# Altium footprint library Atmega128.PcbLib: 3 footprints
Each footprint in its own frame and in the unit in brackets; x right, y up, seen from the top. Pads: shape width x height; smd on the part's side, far side on the other; paste and mask are expansions set on the pad; w line width, h text height; cw(c..) or ccw(c..) is an arc to the next point about the centre after c.
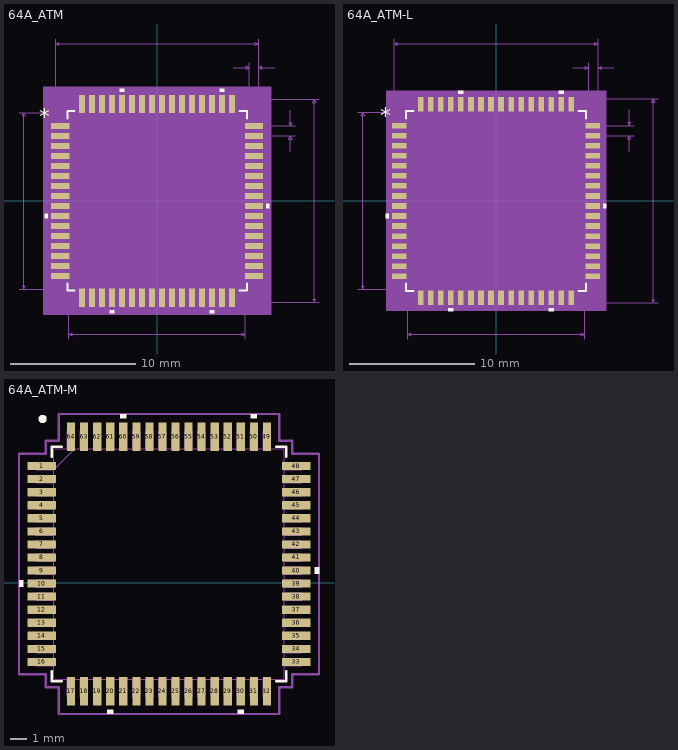
[diagram p0: the footprints below, top view; thin cyan lines are the x and y axes]

## 64A_ATM [mm]
pads (64):
  rect 1.461x0.501 smd paste+0 mask+0: 1(-7.75,6) 2(-7.75,5.2) 3(-7.75,4.4) 4(-7.75,3.6) 5(-7.75,2.8) 6(-7.75,2) 7(-7.75,1.2) 8(-7.75,0.4) 9(-7.75,-0.4) 10(-7.75,-1.2) 11(-7.75,-2) 12(-7.75,-2.8) 13(-7.75,-3.6) 14(-7.75,-4.4) 15(-7.75,-5.2) 16(-7.75,-6) 33(7.75,-6) 34(7.75,-5.2) 35(7.75,-4.4) 36(7.75,-3.6) 37(7.75,-2.8) 38(7.75,-2) 39(7.75,-1.2) 40(7.75,-0.4) 41(7.75,0.4) 42(7.75,1.2) 43(7.75,2) 44(7.75,2.8) 45(7.75,3.6) 46(7.75,4.4) 47(7.75,5.2) 48(7.75,6)
  rect 0.501x1.461 smd paste+0 mask+0: 17(-6,-7.75) 18(-5.2,-7.75) 19(-4.4,-7.75) 20(-3.6,-7.75) 21(-2.8,-7.75) 22(-2,-7.75) 23(-1.2,-7.75) 24(-0.4,-7.75) 25(0.4,-7.75) 26(1.2,-7.75) 27(2,-7.75) 28(2.8,-7.75) 29(3.6,-7.75) 30(4.4,-7.75) 31(5.2,-7.75) 32(6,-7.75) 49(6,7.75) 50(5.2,7.75) 51(4.4,7.75) 52(3.6,7.75) 53(2.8,7.75) 54(2,7.75) 55(1.2,7.75) 56(0.4,7.75) 57(-0.4,7.75) 58(-1.2,7.75) 59(-2,7.75) 60(-2.8,7.75) 61(-3.6,7.75) 62(-4.4,7.75) 63(-5.2,7.75) 64(-6,7.75)
Top Overlay:
  region: -2.609,8.735 -2.99,8.735 -2.99,8.989 -2.609,8.989
  region: 5.39,8.735 5.009,8.735 5.009,8.989 5.39,8.989
  region: 8.735,-0.209 8.989,-0.209 8.989,-0.59 8.735,-0.59
  region: 4.59,-8.735 4.209,-8.735 4.209,-8.989 4.59,-8.989
  region: -3.41,-8.735 -3.791,-8.735 -3.791,-8.989 -3.41,-8.989
  region: -8.735,-1.01 -8.989,-1.01 -8.989,-1.391 -8.735,-1.391
  lines w0.152: -7.177,-6.583 -7.177,-7.177 -6.583,-7.177 ; -7.177,6.583 -7.177,7.177 -6.583,7.177 ; 6.583,-7.177 7.177,-7.177 7.177,-6.583 ; 6.583,7.177 7.177,7.177 7.177,6.583
  text "*" at -9.433,6.146 h1.27
Mechanical 5:
  region: 9.116,-9.116 -9.116,-9.116 -9.116,9.116 9.116,9.116
Mechanical 7:
  lines w0.025: -11.046,-7.05 -6,-7.05 ; -11.046,7.05 -6,7.05 ; -8.125,6 -8.125,12.951 ; -7.05,-11.046 -7.05,-6 ; 6,-8.125 12.951,-8.125 ; 6,8.125 12.951,8.125 ; 6.105,10.665 7.375,10.665 ; 7.05,-11.046 7.05,-6 ; 7.375,6 7.375,11.046 ; 7.75,5.2 11.046,5.2 ; 7.75,6 11.046,6 ; 8.125,11.046 8.125,6 8.125,12.951 ; 9.395,10.665 8.125,10.665 ; 10.665,3.93 10.665,5.2 ; 10.665,7.27 10.665,6 ; -10.665,-7.05 -10.538,-6.796 -10.792,-6.796 -10.665,-7.05 ; -10.665,-7.05 -10.665,7.05 ; -10.665,7.05 -10.538,6.796 -10.792,6.796 -10.665,7.05 ; -8.125,12.57 -7.871,12.443 -7.871,12.697 -8.125,12.57 ; -8.125,12.57 8.125,12.57 ; -7.05,-10.665 -6.796,-10.792 -6.796,-10.538 -7.05,-10.665 ; -7.05,-10.665 7.05,-10.665 ; 7.05,-10.665 6.796,-10.792 6.796,-10.538 7.05,-10.665 ; 7.375,10.665 7.121,10.538 7.121,10.792 7.375,10.665 ; 8.125,10.665 8.379,10.538 8.379,10.792 8.125,10.665 ; 8.125,12.57 7.871,12.443 7.871,12.697 8.125,12.57 ; 10.665,5.2 10.792,4.946 10.538,4.946 10.665,5.2 ; 10.665,6 10.792,6.254 10.538,6.254 10.665,6 ; 12.57,-8.125 12.697,-7.871 12.443,-7.871 12.57,-8.125 ; 12.57,-8.125 12.57,8.125 ; 12.57,8.125 12.697,7.871 12.443,7.871 12.57,8.125
  text "0.64in/16.25mm" at 13.078,-0.318 h0.64
  text "0.555in/14.1mm" at -15.618,-0.318 h0.64
  text "0.555in/14.1mm" at -2.222,-11.808 h0.64
  text "0.64in/16.25mm" at -2.222,13.078 h0.64
  text "0.03in/0.75mm" at 5.686,11.173 h0.64
  text "0.031in/0.8mm" at 11.173,5.282 h0.64
  text "Alt 2 Padstyle: OX90Y60D30P" at -8.572,-22.095 h1.27
  text "Alt 1 Padstyle: OX60Y90D30P" at -8.572,-20.571 h1.27
  text "Default Vert Padstyle: RX19p72Y57p53D0T" at -12.383,-15.999 h1.27
  text "Default Horiz Padstyle: RX19p72Y57p53D0T" at -12.7,-14.475 h1.27
Mechanical 13:
  drawing of 261 lines, arcs and shapes, not listed
  text "*" at -6.987,5.765 h1.27
Mechanical 15:
  region: -6.504,-7.304 -7.304,-7.304 -7.304,-6.504 -8.735,-6.504 -8.735,6.504 -7.304,6.504 -7.304,7.304 -6.504,7.304 -6.504,8.735 6.504,8.735 6.504,7.304 7.304,7.304 7.304,6.504 8.735,6.504 8.735,-6.504 7.304,-6.504 7.304,-7.304 6.504,-7.304 6.504,-8.735 -6.504,-8.735
  lines w0.152: -8.735,-6.504 -8.735,6.504 -7.304,6.504 -7.304,7.304 -6.504,7.304 -6.504,8.735 6.504,8.735 6.504,7.304 7.304,7.304 7.304,6.504 8.735,6.504 8.735,-6.504 7.304,-6.504 7.304,-7.304 6.504,-7.304 6.504,-8.735 -6.504,-8.735 -6.504,-7.304 -7.304,-7.304 -7.304,-6.504 -8.735,-6.504
3D body: height 0.25, standoff 0, extent 0,0 0.254,0.254

## 64A_ATM-L [mm]
pads (64):
  rect 1.156x0.45 smd paste+0 mask+0: 1(-7.699,6) 2(-7.699,5.2) 3(-7.699,4.4) 4(-7.699,3.6) 5(-7.699,2.8) 6(-7.699,2) 7(-7.699,1.2) 8(-7.699,0.4) 9(-7.699,-0.4) 10(-7.699,-1.2) 11(-7.699,-2) 12(-7.699,-2.8) 13(-7.699,-3.6) 14(-7.699,-4.4) 15(-7.699,-5.2) 16(-7.699,-6) 33(7.699,-6) 34(7.699,-5.2) 35(7.699,-4.4) 36(7.699,-3.6) 37(7.699,-2.8) 38(7.699,-2) 39(7.699,-1.2) 40(7.699,-0.4) 41(7.699,0.4) 42(7.699,1.2) 43(7.699,2) 44(7.699,2.8) 45(7.699,3.6) 46(7.699,4.4) 47(7.699,5.2) 48(7.699,6)
  rect 0.45x1.156 smd paste+0 mask+0: 17(-6,-7.699) 18(-5.2,-7.699) 19(-4.4,-7.699) 20(-3.6,-7.699) 21(-2.8,-7.699) 22(-2,-7.699) 23(-1.2,-7.699) 24(-0.4,-7.699) 25(0.4,-7.699) 26(1.2,-7.699) 27(2,-7.699) 28(2.8,-7.699) 29(3.6,-7.699) 30(4.4,-7.699) 31(5.2,-7.699) 32(6,-7.699) 49(6,7.699) 50(5.2,7.699) 51(4.4,7.699) 52(3.6,7.699) 53(2.8,7.699) 54(2,7.699) 55(1.2,7.699) 56(0.4,7.699) 57(-0.4,7.699) 58(-1.2,7.699) 59(-2,7.699) 60(-2.8,7.699) 61(-3.6,7.699) 62(-4.4,7.699) 63(-5.2,7.699) 64(-6,7.699)
Top Overlay:
  region: -2.609,8.531 -2.99,8.531 -2.99,8.785 -2.609,8.785
  region: 5.39,8.531 5.009,8.531 5.009,8.785 5.39,8.785
  region: 8.531,-0.209 8.785,-0.209 8.785,-0.59 8.531,-0.59
  region: 4.59,-8.531 4.209,-8.531 4.209,-8.785 4.59,-8.785
  region: -3.41,-8.531 -3.791,-8.531 -3.791,-8.785 -3.41,-8.785
  region: -8.531,-1.01 -8.785,-1.01 -8.785,-1.391 -8.531,-1.391
  lines w0.152: -7.177,-6.558 -7.177,-7.177 -6.558,-7.177 ; -7.177,6.558 -7.177,7.177 -6.558,7.177 ; 6.558,-7.177 7.177,-7.177 7.177,-6.558 ; 6.558,7.177 7.177,7.177 7.177,6.558
  text "*" at -9.23,6.146 h1.27
Mechanical 5:
  region: 8.76,-8.76 -8.76,-8.76 -8.76,8.76 8.76,8.76
Mechanical 7:
  lines w0.025: -10.995,-7.05 -6,-7.05 ; -10.995,7.05 -6,7.05 ; -8.125,6 -8.125,12.9 ; -7.05,-10.995 -7.05,-6 ; 6,-8.125 12.9,-8.125 ; 6,8.125 12.9,8.125 ; 6.105,10.614 7.375,10.614 ; 7.05,-10.995 7.05,-6 ; 7.375,6 7.375,10.995 ; 7.699,5.2 10.995,5.2 ; 7.699,6 10.995,6 ; 8.125,10.995 8.125,6 8.125,12.9 ; 9.395,10.614 8.125,10.614 ; 10.614,3.93 10.614,5.2 ; 10.614,7.27 10.614,6 ; -10.614,-7.05 -10.487,-6.796 -10.741,-6.796 -10.614,-7.05 ; -10.614,-7.05 -10.614,7.05 ; -10.614,7.05 -10.487,6.796 -10.741,6.796 -10.614,7.05 ; -8.125,12.519 -7.871,12.392 -7.871,12.646 -8.125,12.519 ; -8.125,12.519 8.125,12.519 ; -7.05,-10.614 -6.796,-10.741 -6.796,-10.487 -7.05,-10.614 ; -7.05,-10.614 7.05,-10.614 ; 7.05,-10.614 6.796,-10.741 6.796,-10.487 7.05,-10.614 ; 7.375,10.614 7.121,10.487 7.121,10.741 7.375,10.614 ; 8.125,10.614 8.379,10.487 8.379,10.741 8.125,10.614 ; 8.125,12.519 7.871,12.392 7.871,12.646 8.125,12.519 ; 10.614,5.2 10.741,4.946 10.487,4.946 10.614,5.2 ; 10.614,6 10.741,6.254 10.487,6.254 10.614,6 ; 12.519,-8.125 12.646,-7.871 12.392,-7.871 12.519,-8.125 ; 12.519,-8.125 12.519,8.125 ; 12.519,8.125 12.646,7.871 12.392,7.871 12.519,8.125
  text "0.64in/16.25mm" at 13.027,-0.318 h0.64
  text "0.555in/14.1mm" at -15.567,-0.318 h0.64
  text "0.555in/14.1mm" at -2.222,-11.757 h0.64
  text "0.64in/16.25mm" at -2.222,13.027 h0.64
  text "0.03in/0.75mm" at 5.686,11.122 h0.64
  text "0.031in/0.8mm" at 11.122,5.282 h0.64
  text "Alt 2 Padstyle: OX90Y60D30P" at -8.572,-22.044 h1.27
  text "Alt 1 Padstyle: OX60Y90D30P" at -8.572,-20.52 h1.27
  text "Default Vert Padstyle: RX17p72Y45p53D0T" at -12.383,-15.948 h1.27
  text "Default Horiz Padstyle: RX17p72Y45p53D0T" at -12.7,-14.424 h1.27
Mechanical 13:
  drawing of 261 lines, arcs and shapes, not listed
  text "*" at -6.987,5.765 h1.27
Mechanical 15:
  region: -6.327,-7.152 -7.152,-7.152 -7.152,-6.327 -8.379,-6.327 -8.379,6.327 -7.152,6.327 -7.152,7.152 -6.327,7.152 -6.327,8.379 6.327,8.379 6.327,7.152 7.152,7.152 7.152,6.327 8.379,6.327 8.379,-6.327 7.152,-6.327 7.152,-7.152 6.327,-7.152 6.327,-8.379 -6.327,-8.379
  lines w0.152: -8.379,-6.327 -8.379,6.327 -7.152,6.327 -7.152,7.152 -6.327,7.152 -6.327,8.379 6.327,8.379 6.327,7.152 7.152,7.152 7.152,6.327 8.379,6.327 8.379,-6.327 7.152,-6.327 7.152,-7.152 6.327,-7.152 6.327,-8.379 -6.327,-8.379 -6.327,-7.152 -7.152,-7.152 -7.152,-6.327 -8.379,-6.327
3D body: height 0.25, standoff 0, extent 0,0 0.254,0.254

## 64A_ATM-M [mm]
pads (64):
  rect 1.766x0.501 smd paste+0 mask+0: 1(-42.853,7.143) 2(-42.853,6.343) 3(-42.853,5.543) 4(-42.853,4.743) 5(-42.853,3.943) 6(-42.853,3.143) 7(-42.853,2.343) 8(-42.853,1.543) 9(-42.853,0.743) 10(-42.853,-0.057) 11(-42.853,-0.857) 12(-42.853,-1.657) 13(-42.853,-2.457) 14(-42.853,-3.257) 15(-42.853,-4.057) 16(-42.853,-4.857) 33(-27.251,-4.857) 34(-27.251,-4.057) 35(-27.251,-3.257) 36(-27.251,-2.457) 37(-27.251,-1.657) 38(-27.251,-0.857) 39(-27.251,-0.057) 40(-27.251,0.743) 41(-27.251,1.543) 42(-27.251,2.343) 43(-27.251,3.143) 44(-27.251,3.943) 45(-27.251,4.743) 46(-27.251,5.543) 47(-27.251,6.343) 48(-27.251,7.143)
  rect 0.501x1.766 smd paste+0 mask+0: 17(-41.052,-6.658) 18(-40.252,-6.658) 19(-39.452,-6.658) 20(-38.652,-6.658) 21(-37.852,-6.658) 22(-37.052,-6.658) 23(-36.252,-6.658) 24(-35.452,-6.658) 25(-34.652,-6.658) 26(-33.852,-6.658) 27(-33.052,-6.658) 28(-32.252,-6.658) 29(-31.452,-6.658) 30(-30.652,-6.658) 31(-29.852,-6.658) 32(-29.052,-6.658) 49(-29.052,8.944) 50(-29.852,8.944) 51(-30.652,8.944) 52(-31.452,8.944) 53(-32.252,8.944) 54(-33.052,8.944) 55(-33.852,8.944) 56(-34.652,8.944) 57(-35.452,8.944) 58(-36.252,8.944) 59(-37.052,8.944) 60(-37.852,8.944) 61(-38.652,8.944) 62(-39.452,8.944) 63(-40.252,8.944) 64(-41.052,8.944)
Top Overlay:
  circle w0.254: c-42.799,10.033 r0.127
  region: -37.661,10.081 -38.042,10.081 -38.042,10.335 -37.661,10.335
  region: -29.662,10.081 -30.043,10.081 -30.043,10.335 -29.662,10.335
  region: -26.114,0.934 -25.86,0.934 -25.86,0.553 -26.114,0.553
  region: -30.462,-7.795 -30.843,-7.795 -30.843,-8.049 -30.462,-8.049
  region: -38.462,-7.795 -38.843,-7.795 -38.843,-8.049 -38.462,-8.049
  region: -43.99,0.133 -44.244,0.133 -44.244,-0.248 -43.99,-0.248
  lines w0.152: -42.229,-5.44 -42.229,-6.034 -41.635,-6.034 ; -42.229,7.726 -42.229,8.32 -41.635,8.32 ; -28.469,-6.034 -27.875,-6.034 -27.875,-5.44 ; -28.469,8.32 -27.875,8.32 -27.875,7.726
Mechanical 13:
  drawing of 261 lines, arcs and shapes, not listed
Mechanical 15:
  lines w0.152: -44.244,-5.615 -44.244,7.901 -42.61,7.901 -42.61,8.701 -41.81,8.701 -41.81,10.335 -28.294,10.335 -28.294,8.701 -27.494,8.701 -27.494,7.901 -25.86,7.901 -25.86,-5.615 -27.494,-5.615 -27.494,-6.415 -28.294,-6.415 -28.294,-8.049 -41.81,-8.049 -41.81,-6.415 -42.61,-6.415 -42.61,-5.615 -44.244,-5.615
3D body: height 0.25, standoff 0, extent -35.052,1.143 -34.798,1.397